# Altium footprint library ZZB_Lib.PcbLib: 83 footprints (part 6 of 6)
Each footprint in its own frame and in the unit in brackets; x right, y up, seen from the top. Pads: shape width x height; smd on the part's side, far side on the other; paste and mask are expansions set on the pad; w line width, h text height; cw(c..) or ccw(c..) is an arc to the next point about the centre after c.
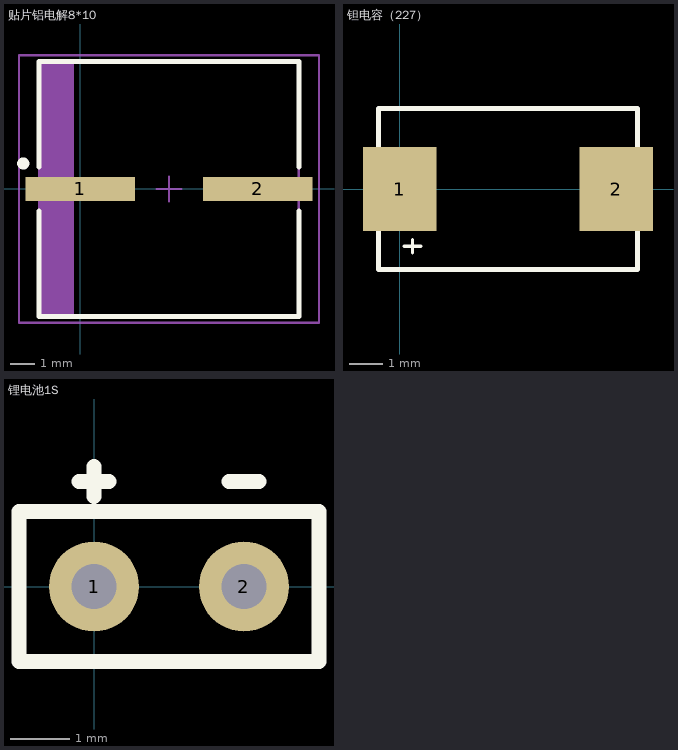
[diagram p5: the footprints below, top view; thin cyan lines are the x and y axes]

## 贴片铝电解8*10 [mm]
height 10
pads (2):
  rect 4.5x1 smd: 1(0,0) 2(7.3,0)
Top Overlay:
  circle w0.25: c-2.35,1.05 r0.125
  lines w0.2: -1.7,-0.9 -1.7,-5.25 9,-5.25 9,-0.9 ; -1.7,0.9 -1.7,5.25 9,5.25 9,0.9
Mechanical 13:
  rectangle: -1.7,-5.25 -0.261,5.25
  lines w0.1: -1.7,-5.25 -1.7,5.25 9,5.25 9,-5.25 -1.7,-5.25
Mechanical 15:
  lines w0.1: 3.15,0 4.15,0 ; 3.65,-0.5 3.65,0.5 ; -2.525,-5.5 -2.525,5.5 9.825,5.5 9.825,-5.5 -2.525,-5.5
3D body: height 10.3, standoff 0, extent -1.7,-5.25 9,5.25

## 钽电容（227） [mm]
pads (2):
  rect 2.2x2.5 smd: 1(0,0) 2(6.477,0)
Top Overlay:
  lines w0.102: 0.127,-1.714 0.635,-1.714 ; 0.381,-1.905 0.381,-1.524
  lines w0.15: -0.635,-2.413 -0.635,-1.313 -0.635,-0.254 -0.635,1.395 -0.635,2.413 7.112,2.413 7.112,1.334 7.112,0.127 7.112,-1.252 7.112,-2.413 -0.635,-2.413

## 锂电池1S [mil]
pads (2):
  round 60 hole 30: 1(0,0) 2(100,0)
Top Overlay:
  lines w10: -10,70 10,70 ; 0,60 0,80 ; 90,70 110,70 ; -50,-50 150,-50 150,50 -50,50 -50,-50